# EAGLE library part CELLPHONE_NOKIA_5100 (library DIY-Cellphone)
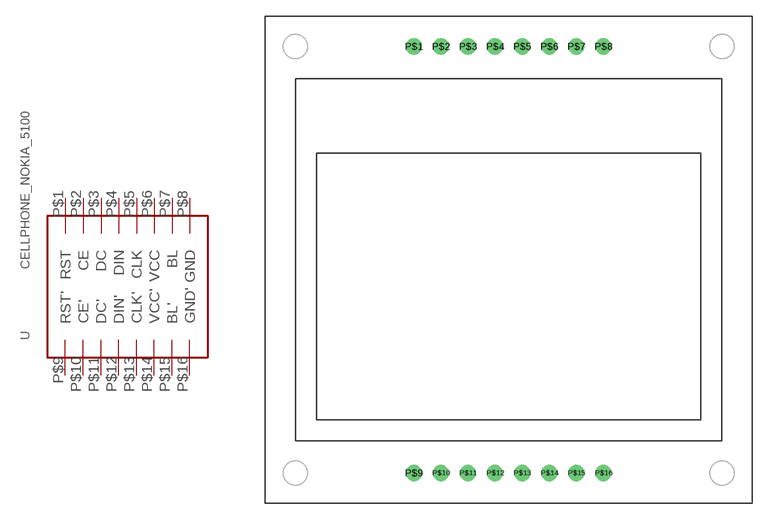
[diagram p0: symbol with the pads of CELLPHONE_NOKIA_5100_SPARKFUN; footprint CELLPHONE_NOKIA_5100_SPARKFUN]

Designator prefix -

## CELLPHONE_NOKIA_5100  [CELLPHONE_NOKIA_5100_SPARKFUN]
P$1  RST
P$2  CE
P$3  DC
P$4  DIN
P$5  CLK
P$6  VCC
P$7  BL
P$8  GND
P$9  RST'
P$10  CE'
P$11  DC'
P$12  DIN'
P$13  CLK'
P$14  VCC'
P$15  BL'
P$16  GND'

## Footprint CELLPHONE_NOKIA_5100_SPARKFUN (pad centres in mm)
drill 1: P$1 -8.89,20; P$2 -6.35,20; P$3 -3.81,20; P$4 -1.27,20; P$5 1.27,20; P$6 3.81,20; P$7 6.35,20; P$8 8.89,20; P$9 -8.89,-20; P$10 -6.35,-20; P$11 -3.81,-20; P$12 -1.27,-20; P$13 1.27,-20; P$14 3.81,-20; P$15 6.35,-20; P$16 8.89,-20